# EAGLE library part MAX3233 (library interfaces)
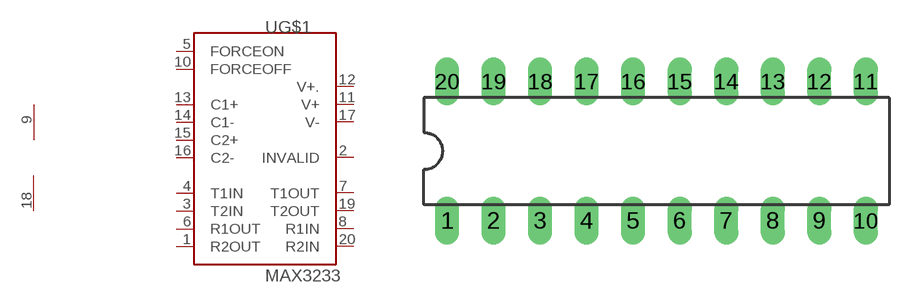
[diagram p9: symbol with the pads of DIP20; footprint DIP20]

Designator prefix -; gates G$1=MAX3233 G$2=PWR+-

## MAX3233  [DIP20]
1  G$1:R2OUT
2  G$1:INVALID
3  G$1:T2IN
4  G$1:T1IN
5  G$1:FORCEON
6  G$1:R1OUT
7  G$1:T1OUT
8  G$1:R1IN
9  G$2:V+  pwr
10  G$1:FORCEOFF
11  G$1:V+
12  G$1:V+.
13  G$1:C1+
14  G$1:C1-
15  G$1:C2+
16  G$1:C2-
17  G$1:V-
18  G$2:V-  pwr
19  G$1:T2OUT
20  G$1:R2IN

## Footprint DIP20 (pad centres in mm)
Dual In Line Package
drill 0.813 long: 1 -11.43,-3.81; 2 -8.89,-3.81; 3 -6.35,-3.81; 4 -3.81,-3.81; 5 -1.27,-3.81; 6 1.27,-3.81; 7 3.81,-3.81; 8 6.35,-3.81; 9 8.89,-3.81; 10 11.43,-3.81; 11 11.43,3.81; 12 8.89,3.81; 13 6.35,3.81; 14 3.81,3.81; 15 1.27,3.81; 16 -1.27,3.81; 17 -3.81,3.81; 18 -6.35,3.81; 19 -8.89,3.81; 20 -11.43,3.81